# Altium footprint library floppy_m0dule.PcbLib: 19 footprints (part 2 of 2)
Each footprint in its own frame and in the unit in brackets; x right, y up, seen from the top. Pads: shape width x height; smd on the part's side, far side on the other; paste and mask are expansions set on the pad; w line width, h text height; cw(c..) or ccw(c..) is an arc to the next point about the centre after c.
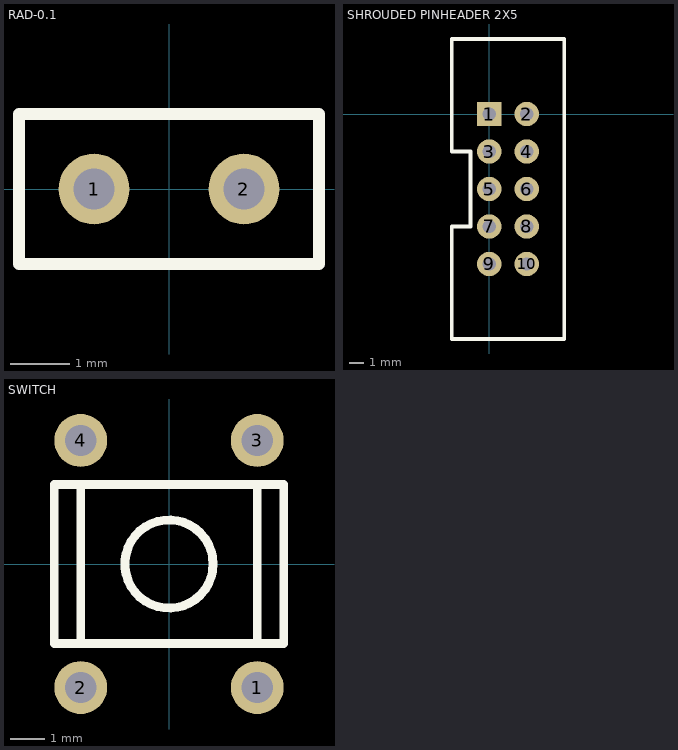
[diagram p1: the footprints below, top view; thin cyan lines are the x and y axes]

## RAD-0.1 [mm] "Radial Cap, Thru-Hole; 2 Leads; 0.1 in Pin Spacing"
pads (2):
  round 1.2 hole 0.7: 1(-1.27,0) 2(1.27,0)
Top Overlay:
  lines w0.2: -2.54,-1.27 2.54,-1.27 2.54,1.27 -2.54,1.27 -2.54,-1.27
3D body: height 7.46, standoff -6.34, extent -2,-1.31 2,1.3

## SHROUDED PINHEADER 2X5 [mil] "2x5 Shrouded Pinheader"
pads (10):
  rect 65x65 hole 35.43: 1(0,0)
  round 65 hole 35.43: 2(100,0) 3(0,-100) 4(100,-100) 5(0,-200) 6(100,-200) 7(0,-300) 8(100,-300) 9(0,-400) 10(100,-400)
Top Overlay:
  lines w10: -100,-600 200,-600 200,200 -100,200 -100,-100 -50,-100 -50,-300 -100,-300 -100,-600
3D body: height 366.93, standoff -120.04, extent -125,-591.93 239.96,191.93

## SWITCH [mil]
pads (4):
  round 60 hole 35.43: 1(100,-140) 2(-100,-140) 3(100,140) 4(-100,140)
Top Overlay:
  circle w10: c0,0 r50
  lines w10: -100,-90 -100,90 ; 100,-90 100,90 ; -130,-90 -130,90 -79,90 51,90 130,90 130,-90 -130,-90